# Altium schematic symbol library GMC020080HR.SchLib: 1 symbol
Pins are listed as number, name and electrical type; pins without a type are passive.

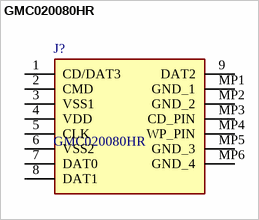
[diagram p0: symbol GMC020080HR]

## GMC020080HR
designator J?
Memory Card Connectors 2 In 1 Connector Sd+mmc; Manufacturer_Name: Amphenol; Geometry.Height: 2.87mm; Mouser Part Number: 523-GMC020080HR; Mouser Price/Stock: https://www.mouser.co.uk/ProductDetail/Amphenol-Commercial-Products/GMC020080HR?qs=W0yvOO0ixfGUck2%252BUqFamw%3D%3D; Manufacturer_Part_Number: GMC020080HR; Datasheet Link: https://componentsearchengine.com/Datasheets/1/GMC020080HR.pdf
footprint GMC020080HR
pins: 1 CD/DAT3, 2 CMD, 3 VSS1, 4 VDD, 5 CLK, 6 VSS2, 7 DAT0, 8 DAT1, 9 DAT2, MP1 GND_1, MP2 GND_2, MP3 CD_PIN, MP4 WP_PIN, MP5 GND_3, MP6 GND_4